# EAGLE library part AT25SF041-SSHD-T (library AT25SF041-SSHD-T)
NOR Flash Serial (SPI, Dual SPI, Quad SPI) 3.3V 4M-bit 512K x 8 8ns 8-Pin SOIC T/R Source: Datasheet <https://www.adestotech.com/wp-content/uploads/DS-AT25SF041_044.pdf>
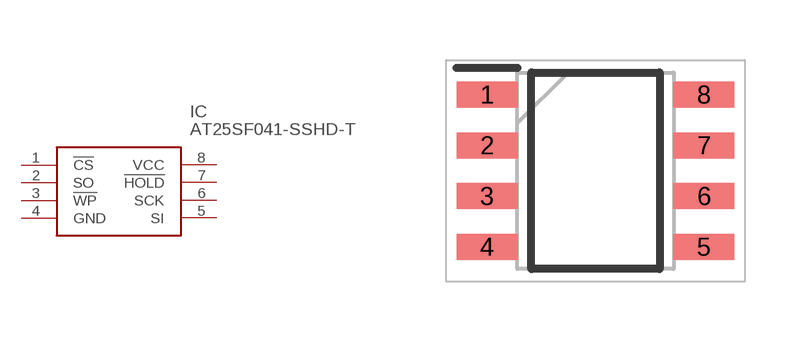
[diagram p0: symbol with the pads of SOIC127P600X175-8N; footprint SOIC127P600X175-8N]

Designator prefix IC

## AT25SF041-SSHD-T (Description: NOR Flash Serial (SPI, Dual SPI, Quad SPI) 3.3V 4M-bit 512K x 8 8ns 8-Pin SOIC T/R; Height: 1.75mm; Manufacturer_Name: Adesto Technologies; Manufacturer_Part_Number: AT25SF041-SSHD-T; Mouser_Part_Number: 988-AT25SF041-SSHD-T; Mouser_Price-Stock: https://www.mouser.com/Search/Refine.aspx?Keyword=988-AT25SF041-SSHD-T)  [SOIC127P600X175-8N]
1  !CS
2  SO
3  !WP
4  GND
5  SI
6  SCK
7  !HOLD
8  VCC

## Footprint SOIC127P600X175-8N (pad centres in mm)
8S1 JEDEC SOIC
smd 1.525 x 0.65: 1 -2.712,1.905; 2 -2.712,0.635; 3 -2.712,-0.635; 4 -2.712,-1.905; 5 2.712,-1.905; 6 2.712,-0.635; 7 2.712,0.635; 8 2.712,1.905